# Altium schematic symbol library J_32ABC.Schlib: 1 symbol
Pins are listed as number, name and electrical type; pins without a type are passive.

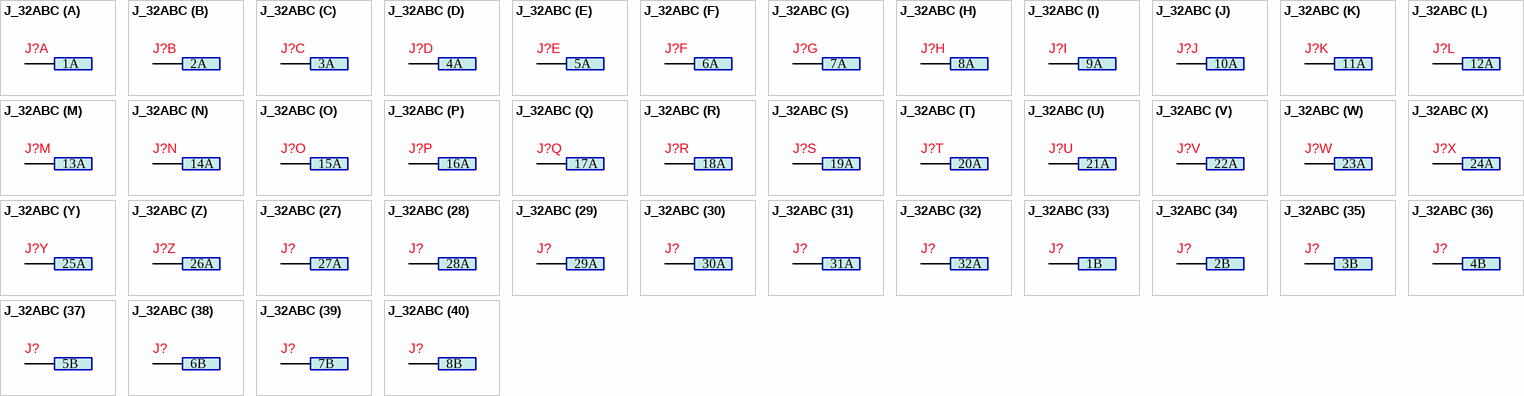
[diagram p0: symbol J_32ABC]

## J_32ABC
designator J?, comment Federleiste  (value not drawn)
part A pins: 1A
part B pins: 2A
part C pins: 3A
part D pins: 4A
part E pins: 5A
part F pins: 6A
part G pins: 7A
part H pins: 8A
part I pins: 9A
part J pins: 10A
part K pins: 11A
part L pins: 12A
part M pins: 13A
part N pins: 14A
part O pins: 15A
part P pins: 16A
part Q pins: 17A
part R pins: 18A
part S pins: 19A
part T pins: 20A
part U pins: 21A
part V pins: 22A
part W pins: 23A
part X pins: 24A
part Y pins: 25A
part Z pins: 26A
part 27 pins: 27A
part 28 pins: 28A
part 29 pins: 29A
part 30 pins: 30A
part 31 pins: 31A
part 32 pins: 32A
part 33 pins: 1B
part 34 pins: 2B
part 35 pins: 3B
part 36 pins: 4B
part 37 pins: 5B
part 38 pins: 6B
part 39 pins: 7B
part 40 pins: 8B
part 41 pins: 9B
part 42 pins: 10B
part 43 pins: 11B
part 44 pins: 12B
part 45 pins: 13B
part 46 pins: 14B
part 47 pins: 15B
part 48 pins: 16B
part 49 pins: 17B
part 50 pins: 18B
part 51 pins: 19B
part 52 pins: 20B
part 53 pins: 21B
part 54 pins: 22B
part 55 pins: 23B
part 56 pins: 24B
part 57 pins: 25B
part 58 pins: 26B
part 59 pins: 27B
part 60 pins: 28B
part 61 pins: 29B
part 62 pins: 30B
part 63 pins: 31B
part 64 pins: 32B
part 65 pins: 1C
part 66 pins: 2C
part 67 pins: 3C
part 68 pins: 4C
part 69 pins: 5C
part 70 pins: 6C
part 71 pins: 7C
part 72 pins: 8C
part 73 pins: 9C
part 74 pins: 10C
part 75 pins: 11C
part 76 pins: 12C
part 77 pins: 13C
part 78 pins: 14C
part 79 pins: 15C
part 80 pins: 16C
part 81 pins: 17C
part 82 pins: 18C
part 83 pins: 19C
part 84 pins: 20C
part 85 pins: 21C
part 86 pins: 22C
part 87 pins: 23C
part 88 pins: 24C
part 89 pins: 25C
part 90 pins: 26C
part 91 pins: 27C
part 92 pins: 28C
part 93 pins: 29C
part 94 pins: 30C
part 95 pins: 31C
part 96 pins: 32C